# EAGLE library part TRF796X (library TRF796x)
TRF7960RHB
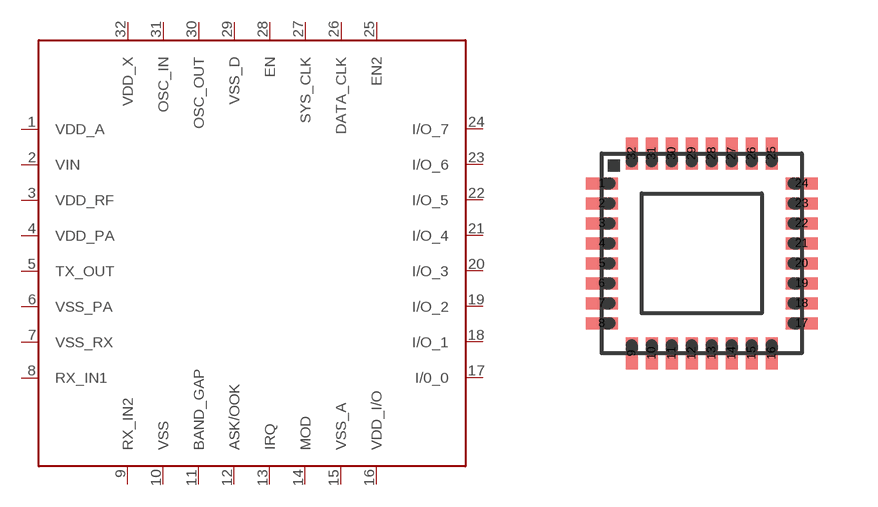
[diagram p0: symbol with the pads of TRF7960_61; footprint TRF7960_61]

Designator prefix -

## TRF796XS-PQFP-N32(RHB)  [TRF7960_61]
1  VDD_A  out
2  VIN  sup
3  VDD_RF  out
4  VDD_PA  in
5  TX_OUT  out
6  VSS_PA  sup
7  VSS_RX  sup
8  RX_IN1  in
9  RX_IN2  in
10  VSS  sup
11  BAND_GAP  out
12  ASK/OOK
13  IRQ  out
14  MOD  in
15  VSS_A  sup
16  VDD_I/O  sup
17  I/0_0
18  I/O_1
19  I/O_2
20  I/O_3
21  I/O_4
22  I/O_5
23  I/O_6
24  I/O_7
25  EN2  in
26  DATA_CLK  in
27  SYS_CLK  out
28  EN  in
29  VSS_D  sup
30  OSC_OUT  out
31  OSC_IN  in
32  VDD_X  out

## Footprint TRF7960_61 (pad centres in mm)
TRF796x HF RFID ASIC http://focus.ti.com/lit/ds/symlink/trf7960.pdf
smd 0.8 x 0.3: 1 -2.5,1.75; 2 -2.5,1.25; 3 -2.5,0.75; 4 -2.5,0.25; 5 -2.5,-0.25; 6 -2.5,-0.75; 7 -2.5,-1.25; 8 -2.5,-1.75; 17 2.5,-1.75; 18 2.5,-1.25; 19 2.5,-0.75; 20 2.5,-0.25; 21 2.5,0.25; 22 2.5,0.75; 23 2.5,1.25; 24 2.5,1.75
smd 0.3 x 0.8: 9 -1.75,-2.5; 10 -1.25,-2.5; 11 -0.75,-2.5; 12 -0.25,-2.5; 13 0.25,-2.5; 14 0.75,-2.5; 15 1.25,-2.5; 16 1.75,-2.5; 25 1.75,2.5; 26 1.25,2.5; 27 0.75,2.5; 28 0.25,2.5; 29 -0.25,2.5; 30 -0.75,2.5; 31 -1.25,2.5; 32 -1.75,2.5